# Altium integrated library AD Video HDMI.IntLib: 2 symbols
Pins are listed as number, name and electrical type; pins without a type are passive.

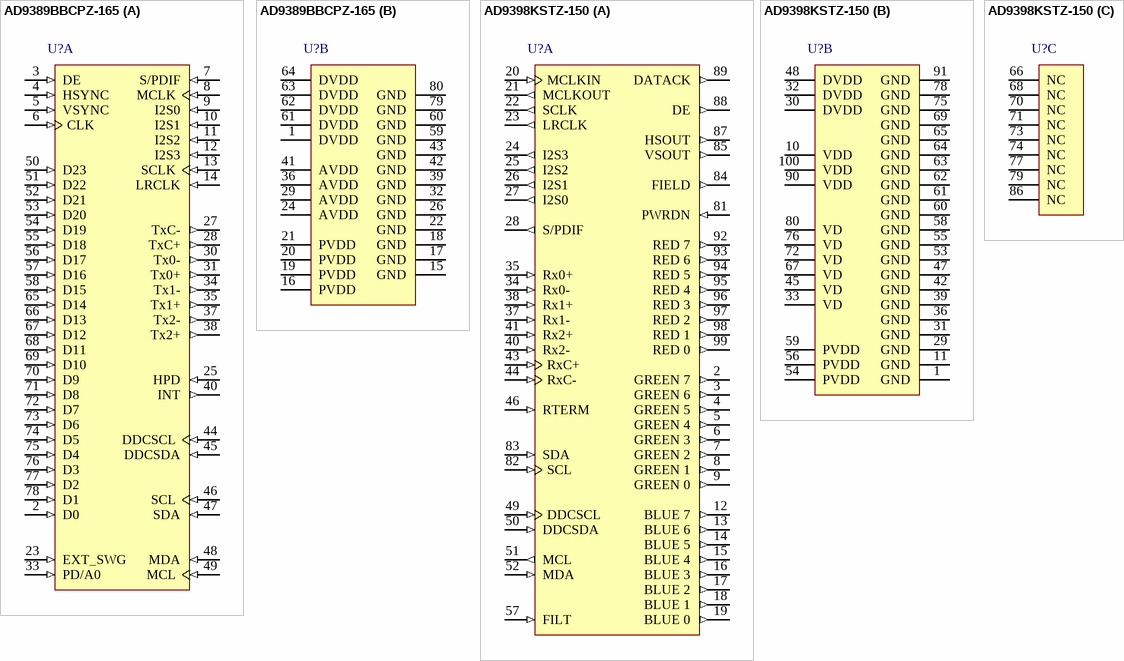
[diagram p0: symbols AD9389BBCPZ-165 to AD9398KSTZ-150]

## AD9389BBCPZ-165
designator U?
High Performance HDMI/DVI Transmitter; Published: 26-Sep-2008; DatasheetVersion: revO, Nov-2007; PackageVersion: Oct-2004; PackageReference: ST-80-2; Publisher: Altium Limited; PackageDescription: 80-Lead Low Profile Quad Flat Package, 14 x 14 x 1.4 mm Body [LQFP]; Code_JEDEC: MS-026-BEC; ComponentLink1Description: Manufacturer Link; ComponentLink1URL: http://www.analog.com/; ComponentLink2Description: Datasheet; ComponentLink2URL: http://www.analog.com/static/imported-files/data_sheets/AD9389B.pdf
footprint ST-80-2_V (Thin QFP, 80-Leads, Body 14 x 14mm, Pitch 0.65mm, AD Recommended)
footprint ST-80-2_N (Thin QFP, 80-Leads, Body 14 x 14mm, Pitch 0.65mm, IPC Medium Density)
footprint ST-80-2_L (Thin QFP, 80-Leads, Body 14 x 14mm, Pitch 0.65mm, IPC High Density)
footprint ST-80-2_M (Thin QFP, 80-Leads, Body 14 x 14mm, Pitch 0.65mm, IPC Low Density)
part A pins: 2 D0 (in) "Video Data Input. Digital input in RGB or YCbCr format. Supports CMOS logic levels fro1.8 V to 3.3 V.", 3 DE (in) "Data Enable Bit for Digital Video. Supports CMOS logic levels from 1.8 V to 3.3 V.", 4 HSYNC (in) "Horizontal Sync Input. Supports CMOS logic levels from 1.8 V to 3.3 V.", 5 VSYNC (in) "Vertical Sync Input. Supports CMOS logic levels from 1.8 V to 3.3 V.", 6 CLK (in) "Video Clock Input. Supports CMOS logic levels from 1.8 V to 3.3 V.", 7 S/PDIF (in) "S/PDIF (Sony/Philips Digital Interface) Audio Input.", 8 MCLK (in) "Audio Reference Clock. 128 x N x fSwith N = 1, 2, 3, or 4.", 9 I2S0 (in) "I2S Audio Data Input. These represent the eight channels of audio (two per input) available through I2S.", 10 I2S1 (in) "I2S Audio Data Input. These represent the eight channels of audio (two per input) available through I2S.", 11 I2S2 (in) "I2S Audio Data Input. These represent the eight channels of audio (two per input) available through I2S.", 12 I2S3 (in) "I2S Audio Data Input. These represent the eight channels of audio (two per input) available through I2S.", 13 SCLK (in) "I2S Audio Clock. Supports CMOS logic levels from 1.8 V to 3.3 V.", 14 LRCLK (in) "Left/Right Channel Selection. Supports CMOS logic levels from 1.8 V to 3.3 V.", 23 EXT_SWG (in) "Set Internal Reference Currents. Place 887Ohm resistor (1% tolerance) between this pand ground.", 25 HPD (in) "Hot Plug Detect Signal. This indicates to the interface whether the receiver is connected. 1.8 V to 5.0 V CMOS logic levels.", 27 TxC- (out) "Differential Clock Output. Differential clock output at pixel clock rate; TMDS logic level.", 28 TxC+ (out) "Differential Clock Output. Differential clock output at pixel clock rate; TMDS logic level.", 30 Tx0- (out) "Differential Output Channel 0. Differential output of the blue data at 10x the pixel clock rate; TMDS logic level.", 31 Tx0+ (out) "Differential Output Channel 0. Differential output of the blue data at 10x the pixel clock rate; TMDS logic level.", 33 PD/A0 (in) "Power-Down Control and I2C Address Selection.", 34 Tx1- (out) "Differential Output Channel 1. Differential output of the green data at 10x the pixeclock rate; TMDS logic level.", 35 Tx1+ (out) "Differential Output Channel 1. Differential output of the green data at 10x the pixeclock rate; TMDS logic level.", 37 Tx2- (out) "Differential Output Channel 2. Differential output of the red data at 10x the pixel clock rate; TMDS logic level.", 38 Tx2+ (out) "Differential Output Channel 2. Differential output of the red data at 10x the pixel clock rate; TMDS logic level.", 40 INT (out) "Interrupt. Open drain. A 2 kOhm pull-up resistor to the microcontroller I/O supply is recommended. Active Low.", 44 DDCSCL (in) "Serial Port Data Clock to Receiver. This pin serves as the master clock for the DDC bus. 5 V CMOS logic level.", 45 DDCSDA (in) "Serial Port Data I/O to Receiver. This pin serves as the master to the DDC bus. 5 V CMOS logic level.", 46 SCL (in) "Serial Port Data Clock. This pin serves as the serial port data clock slave for registeraccess.", 47 SDA (in) "Serial Port Data I/O. This pin serves as the serial port data I/O slave for register access.", 48 MDA (in) "Serial Port Data I/O Master to HDCP Key EEPROM. Supports CMOS logic levels from1.8 V to 3.3 V.", 49 MCL (in) "Serial Port Data Clock Master to HDCP Key EEPROM. Supports CMOS logic levels from 1.8 V to 3.3 V.", 50 D23 (in) "Video Data Input. Digital input in RGB or YCbCr format. Supports CMOS logic levels fro1.8 V to 3.3 V.", 51 D22 (in) "Video Data Input. Digital input in RGB or YCbCr format. Supports CMOS logic levels fro1.8 V to 3.3 V.", 52 D21 (in) "Video Data Input. Digital input in RGB or YCbCr format. Supports CMOS logic levels fro1.8 V to 3.3 V.", 53 D20 (in) "Video Data Input. Digital input in RGB or YCbCr format. Supports CMOS logic levels fro1.8 V to 3.3 V.", 54 D19 (in) "Video Data Input. Digital input in RGB or YCbCr format. Supports CMOS logic levels fro1.8 V to 3.3 V.", 55 D18 (in) "Video Data Input. Digital input in RGB or YCbCr format. Supports CMOS logic levels fro1.8 V to 3.3 V.", 56 D17 (in) "Video Data Input. Digital input in RGB or YCbCr format. Supports CMOS logic levels fro1.8 V to 3.3 V.", 57 D16 (in) "Video Data Input. Digital input in RGB or YCbCr format. Supports CMOS logic levels fro1.8 V to 3.3 V.", 58 D15 (in) "Video Data Input. Digital input in RGB or YCbCr format. Supports CMOS logic levels fro1.8 V to 3.3 V.", 65 D14 (in) "Video Data Input. Digital input in RGB or YCbCr format. Supports CMOS logic levels fro1.8 V to 3.3 V.", 66 D13 (in) "Video Data Input. Digital input in RGB or YCbCr format. Supports CMOS logic levels fro1.8 V to 3.3 V.", 67 D12 (in) "Video Data Input. Digital input in RGB or YCbCr format. Supports CMOS logic levels fro1.8 V to 3.3 V.", 68 D11 (in) "Video Data Input. Digital input in RGB or YCbCr format. Supports CMOS logic levels fro1.8 V to 3.3 V.", 69 D10 (in) "Video Data Input. Digital input in RGB or YCbCr format. Supports CMOS logic levels fro1.8 V to 3.3 V.", 70 D9 (in) "Video Data Input. Digital input in RGB or YCbCr format. Supports CMOS logic levels fro1.8 V to 3.3 V.", 71 D8 (in) "Video Data Input. Digital input in RGB or YCbCr format. Supports CMOS logic levels fro1.8 V to 3.3 V.", 72 D7 (in) "Video Data Input. Digital input in RGB or YCbCr format. Supports CMOS logic levels fro1.8 V to 3.3 V.", 73 D6 (in) "Video Data Input. Digital input in RGB or YCbCr format. Supports CMOS logic levels fro1.8 V to 3.3 V.", 74 D5 (in) "Video Data Input. Digital input in RGB or YCbCr format. Supports CMOS logic levels fro1.8 V to 3.3 V.", 75 D4 (in) "Video Data Input. Digital input in RGB or YCbCr format. Supports CMOS logic levels fro1.8 V to 3.3 V.", 76 D3 (in) "Video Data Input. Digital input in RGB or YCbCr format. Supports CMOS logic levels fro1.8 V to 3.3 V.", 77 D2 (in) "Video Data Input. Digital input in RGB or YCbCr format. Supports CMOS logic levels fro1.8 V to 3.3 V.", 78 D1 (in) "Video Data Input. Digital input in RGB or YCbCr format. Supports CMOS logic levels fro1.8 V to 3.3 V."
part B pins: 1 DVDD (power) "1.8 V Power Supply for Digital and I/O Power Supply.", 15 GND (power) "Ground. The ground return for all circuitry on-chip.", 16 PVDD (power) "1.8 V PLL Power Supply.", 17 GND (power) "Ground. The ground return for all circuitry on-chip.", 18 GND (power) "Ground. The ground return for all circuitry on-chip.", 19 PVDD (power) "1.8 V PLL Power Supply.", 20 PVDD (power) "1.8 V PLL Power Supply.", 21 PVDD (power) "1.8 V PLL Power Supply.", 22 GND (power) "Ground. The ground return for all circuitry on-chip.", 24 AVDD (power) "1.8 V Power Supply for TMDS Outputs.", 26 GND (power) "Ground. The ground return for all circuitry on-chip.", 29 AVDD (power) "1.8 V Power Supply for TMDS Outputs.", 32 GND (power) "Ground. The ground return for all circuitry on-chip.", 36 AVDD (power) "1.8 V Power Supply for TMDS Outputs.", 39 GND (power) "Ground. The ground return for all circuitry on-chip.", 41 AVDD (power) "1.8 V Power Supply for TMDS Outputs.", 42 GND (power) "Ground. The ground return for all circuitry on-chip.", 43 GND (power) "Ground. The ground return for all circuitry on-chip.", 59 GND (power) "Ground. The ground return for all circuitry on-chip.", 60 GND (power) "Ground. The ground return for all circuitry on-chip.", 61 DVDD (power) "1.8 V Power Supply for Digital and I/O Power Supply.", 62 DVDD (power) "1.8 V Power Supply for Digital and I/O Power Supply.", 63 DVDD (power) "1.8 V Power Supply for Digital and I/O Power Supply.", 64 DVDD (power) "1.8 V Power Supply for Digital and I/O Power Supply.", 79 GND (power) "Ground. The ground return for all circuitry on-chip.", 80 GND (power) "Ground. The ground return for all circuitry on-chip."

## AD9398KSTZ-150
designator U?
HDMI Display Interface; Published: 26-Sep-2008; DatasheetVersion: revO, Dec-2005; PackageVersion: Jul-2007; PackageReference: ST-100-1; Publisher: Altium Limited; PackageDescription: 100-Lead Low Profile Quad Flat Package, 14 x 14 x 1.4 mm Body [LQFP]; Code_JEDEC: MS-026-BED; ComponentLink1Description: Manufacturer Link; ComponentLink1URL: http://www.analog.com/; ComponentLink2Description: Datasheet; ComponentLink2URL: http://www.analog.com/static/imported-files/data_sheets/AD9398.pdf
footprint ST-100-1_V (Thin QFP, 100-Leads, Body 14x14mm, Pitch 0.5mm, AD Recommended)
footprint ST-100-1_N (Thin QFP, 100-Leads, Body 14x14mm, Pitch 0.5mm, IPC Medium Density)
footprint ST-100-1_L (Thin QFP, 100-Leads, Body 14x14mm, Pitch 0.5mm, IPC High Density)
footprint ST-100-1_M (Thin QFP, 100-Leads, Body 14x14mm, Pitch 0.5mm, IPC Low Density)
part A pins: 2 GREEN 7 (out) "Output of Green Converter, Bit 7 is MSB", 3 GREEN 6 (out) "Output of Green Converter, Bit 7 is MSB", 4 GREEN 5 (out) "Output of Green Converter, Bit 7 is MSB", 5 GREEN 4 (out) "Output of Green Converter, Bit 7 is MSB", 6 GREEN 3 (out) "Output of Green Converter, Bit 7 is MSB", 7 GREEN 2 (out) "Output of Green Converter, Bit 7 is MSB", 8 GREEN 1 (out) "Output of Green Converter, Bit 7 is MSB", 9 GREEN 0 (out) "Output of Green Converter, Bit 7 is MSB", 12 BLUE 7 (out) "Output of Blue Converter, Bit 7 is MSB", 13 BLUE 6 (out) "Output of Blue Converter, Bit 7 is MSB", 14 BLUE 5 (out) "Output of Blue Converter, Bit 7 is MSB", 15 BLUE 4 (out) "Output of Blue Converter, Bit 7 is MSB", 16 BLUE 3 (out) "Output of Blue Converter, Bit 7 is MSB", 17 BLUE 2 (out) "Output of Blue Converter, Bit 7 is MSB", 18 BLUE 1 (out) "Output of Blue Converter, Bit 7 is MSB", 19 BLUE 0 (out) "Output of Blue Converter, Bit 7 is MSB", 20 MCLKIN (in) "External Reference Audio Clock In", 21 MCLKOUT (out) "Audio Master Clock Output", 22 SCLK (out) "Audio Serial Clock Output", 23 LRCLK (out) "Data Output Clock for Left and Right Audio Channels", 24 I2S3 (out) "I2S Audio (Channel 7, Channel 8)", 25 I2S2 (out) "I2S Audio (Channel 5, Channel 6)", 26 I2S1 (out) "I2S Audio (Channel 3, Channel 4)", 27 I2S0 (out) "I2S Audio (Channel 1, Channel 2)", 28 S/PDIF (out) "S/PDIF Digital Audio Output", 34 Rx0- (in) "Digital Input Channel 0 Complement", 35 Rx0+ (in) "Digital Input Channel 0 True", 37 Rx1- (in) "Digital Input Channel 1 Complement", 38 Rx1+ (in) "Digital Input Channel 1 True", 40 Rx2- (in) "Digital Input Channel 2 Complement", 41 Rx2+ (in) "Digital Input Channel 2 True", 43 RxC+ (in) "Digital Data Clock True", 44 RxC- (in) "Digital Data Clock Complement", 46 RTERM (in) "Sets Internal Termination Resistance", 49 DDCSCL (in) "HDCP Slave Serial Port Data Clock", 50 DDCSDA (in) "HDCP Slave Serial Port Data I/O", 51 MCL (out) "HDCP Master Serial Port Data Clock", 52 MDA (in) "HDCP Master Serial Port Data I/O", 57 FILT (in) "Connection for External Filter Components for audio PLL", 81 PWRDN (in) "Power-Down Control", 82 SCL (in) "Serial Port Data Clock", 83 SDA (in) "Serial Port Data I/O", 84 FIELD (out) "Odd/Even Field Output", 85 VSOUT (out) "VSYNC Output Clock (Phase-Aligned with DATACK)", 87 HSOUT (out) "HSYNC Output Clock (Phase-Aligned with DATACK)", 88 DE (out) "Data Enable", 89 DATACK (out) "Data Output Clock", 92 RED 7 (out) "Output of Red Converter, Bit 7 is MSB", 93 RED 6 (out) "Output of Red Converter, Bit 7 is MSB", 94 RED 5 (out) "Output of Red Converter, Bit 7 is MSB", 95 RED 4 (out) "Output of Red Converter, Bit 7 is MSB", 96 RED 3 (out) "Output of Red Converter, Bit 7 is MSB", 97 RED 2 (out) "Output of Red Converter, Bit 7 is MSB", 98 RED 1 (out) "Output of Red Converter, Bit 7 is MSB", 99 RED 0 (out) "Output of Red Converter, Bit 7 is MSB"
part B pins: 1 GND (power) "Ground", 10 VDD (power) "Output Power Supply", 11 GND (power) "Ground", 29 GND (power) "Ground", 30 DVDD (power) "Digital Logic Power Supply", 31 GND (power) "Ground", 32 DVDD (power) "Digital Logic Power Supply", 33 VD (power) "Analog Power Supply and DVI Terminators", 36 GND (power) "Ground", 39 GND (power) "Ground", 42 GND (power) "Ground", 45 VD (power) "Analog Power Supply and DVI Terminators", 47 GND (power) "Ground", 48 DVDD (power) "Digital Logic Power Supply", 53 GND (power) "Ground", 54 PVDD (power) "PLL Power Supply", 55 GND (power) "Ground", 56 PVDD (power) "PLL Power Supply", 58 GND (power) "Ground", 59 PVDD (power) "PLL Power Supply", 60 GND (power) "Ground", 61 GND (power) "Ground", 62 GND (power) "Ground", 63 GND (power) "Ground", 64 GND (power) "Ground", 65 GND (power) "Ground", 67 VD (power) "Analog Power Supply and DVI Terminators", 69 GND (power) "Ground", 72 VD (power) "Analog Power Supply and DVI Terminators", 75 GND (power) "Ground", 76 VD (power) "Analog Power Supply and DVI Terminators", 78 GND (power) "Ground", 80 VD (power) "Analog Power Supply and DVI Terminators", 90 VDD (power) "Output Power Supply", 91 GND (power) "Ground", 100 VDD (power) "Output Power Supply"
part C pins: 66 NC "No Connection", 68 NC "No Connection", 70 NC "No Connection", 71 NC "No Connection", 73 NC "No Connection", 74 NC "No Connection", 77 NC "No Connection", 79 NC "No Connection", 86 NC "No Connection"